# Altium schematic symbol library Analog.SchLib: 26 symbols
Pins are listed as number, name and electrical type; pins without a type are passive.

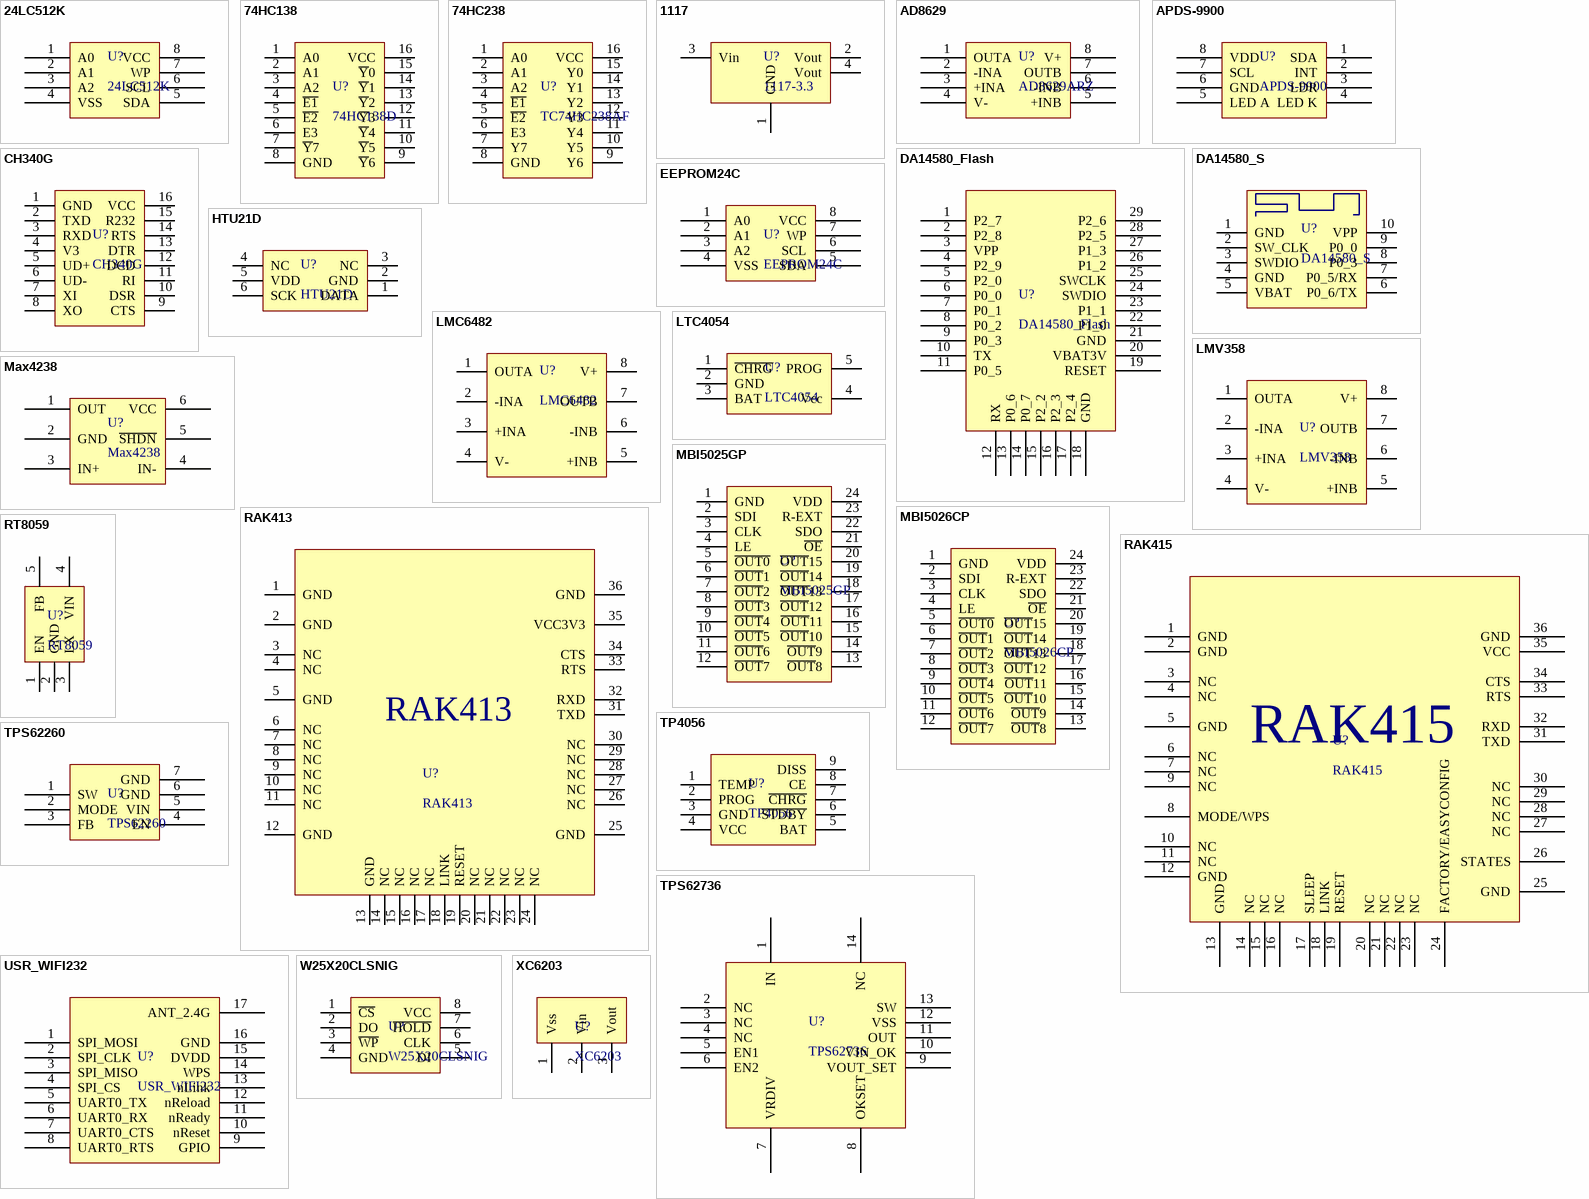
[diagram p0: symbols 24LC512K to XC6203]

## 24LC512K
designator U?
Attributes: 512K Bit; Purchase: C43586
footprint SOIC8_53MM
pins: 1 A0, 2 A1, 3 A2, 4 VSS, 5 SDA, 6 SCL, 7 WP, 8 VCC

## 74HC138
designator U?, comment 74HC138D
Attributes: 3 8译码器; Purchase: C5602
footprint SOIC16_39mm
pins: 1 A0, 2 A1, 3 A2, 4 ~{E1}, 5 ~{E2}, 6 E3, 7 ~{Y}7, 8 GND, 9 ~{Y}6, 10 ~{Y}5, 11 ~{Y}4, 12 ~{Y}3, 13 ~{Y}2, 14 ~{Y}1, 15 ~{Y}0, 16 VCC

## 74HC238
designator U?, comment TC74HC238AF
Attributes: I/O 20Ma; Purchase: C8147
pins: 1 A0, 2 A1, 3 A2, 4 ~{E1}, 5 ~{E2}, 6 E3, 7 Y7, 8 GND, 9 Y6, 10 Y5, 11 Y4, 12 Y3, 13 Y2, 14 Y1, 15 Y0, 16 VCC

## 1117
designator U?, comment 1117-3.3
Attributes: LDO 800ma; Purchase: C6186; Prices: 0.38
footprint SOT223
pins: 1 GND, 2 Vout, 3 Vin, 4 Vout

## AD8629
designator U?, comment AD8629ARZ
Amplifier; Purchase: C23487; Attributes: *
footprint SOIC8_39MM
pins: 1 OUTA, 2 -INA, 3 +INA, 4 V-, 5 +INB, 6 -INB, 7 OUTB, 8 V+

## APDS-9900
designator U?
Attributes: *; Purchase: http://item.taobao.com/item.htm?spm=a1z0d.6639537.1997196601.4.bptW0I&id=25709844036
footprint DualFlatNo-Lead
pins: 1 SDA, 2 INT, 3 LDR, 4 LED K, 5 LED A, 6 GND, 7 SCL, 8 VDD

## CH340G
designator U?
Purchase: C14267; Attributes: *; Prices: 1.46
footprint SOP-16
pins: 1 GND, 2 TXD, 3 RXD, 4 V3, 5 UD+, 6 UD-, 7 XI, 8 XO, 9 CTS, 10 DSR, 11 RI, 12 DCD, 13 DTR, 14 RTS, 15 R232, 16 VCC

## DA14580_Flash
designator U?
Attributes: *; Purchase: *
footprint DA14580_Flash
pins: 1 P2_7, 2 P2_8, 3 VPP, 4 P2_9, 5 P2_0, 6 P0_0, 7 P0_1, 8 P0_2, 9 P0_3, 10 TX, 11 P0_5, 12 RX, 13 P0_6, 14 P0_7, 15 P2_2, 16 P2_3, 17 P2_4, 18 GND, 19 RESET, 20 VBAT3V, 21 GND, 22 P1_0, 23 P1_1, 24 SWDIO, 25 SWCLK, 26 P1_2, 27 P1_3, 28 P2_5, 29 P2_6

## DA14580_S
designator U?
Attributes: *; Purchase: http://item.taobao.com/item.htm?spm=a1z09.2.9.21.JA6NGF&id=42197045529&_u=9mljuuh1fc0
footprint DA14580_S
pins: 1 GND, 2 SW_CLK, 3 SWDIO, 4 GND, 5 VBAT, 6 P0_6/TX, 7 P0_5/RX, 8 P0_3, 9 P0_0, 10 VPP

## EEPROM24C
designator U?
Attributes: 64K; Purchase: C5460
footprint SOIC8_39MM
pins: 1 A0, 2 A1, 3 A2, 4 VSS, 5 SDA, 6 SCL, 7 WP, 8 VCC

## HTU21D
designator U?
Purchase: 联合腾达电子; Attributes: *
footprint HTU21D
pins: 1 DATA, 2 GND, 3 NC, 4 NC, 5 VDD, 6 SCK

## LMC6482
designator U?
Purchase: C12620; Attributes: *
footprint LMC6482
pins: 1 OUTA, 2 -INA, 3 +INA, 4 V-, 5 +INB, 6 -INB, 7 OUTB, 8 V+

## LMV358
designator U?
Purchase: C7980; Attributes: *; Prices: 0.50
footprint LMV358_SOP (TSOP, 8-Leads, Body 3.00x3.00mm, Pitch 0.65mm, IPC Medium Density)
pins: 1 OUTA, 2 -INA, 3 +INA, 4 V-, 5 +INB, 6 -INB, 7 OUTB, 8 V+

## LTC4054
designator U?
Attributes: *; Purchase: http://detail.tmall.com/item.htm?spm=a230r.1.14.1.Wl2oSg&id=41254667951&ad_id=&am_id=&cm_id=140105335569ed55e27b&pm_id=&abbucket=10; Price: 0.855
footprint LTC4054
pins: 1 ~{CHRG}, 2 GND, 3 BAT, 4 Vcc, 5 PROG

## Max4238
designator U?
Attributes: *; Purchase: http://item.taobao.com/item.htm?spm=a230r.1.14.19.M03qaz&id=40515208161&ns=1#detail
footprint SOT95P280X145-6N (SOT23, 6-Leads, Body 2.90x2.80mm, Pitch 0.95mm, IPC Medium Density)
pins: 1 OUT, 2 GND, 3 IN+, 4 IN-, 5 ~{SHDN}, 6 VCC

## MBI5025GP
designator U?
Attributes: *; Purchase: http://item.taobao.com/item.htm?spm=a230r.1.14.1.NYibCT&id=39695648726&ns=1#detail
footprint TSOP65P640X120-24L (TSOP, 24-Leads, Body 7.80x4.40mm, Pitch 0.65mm, IPC High Density)
pins: 1 GND, 2 SDI, 3 CLK, 4 LE, 5 ~{OUT0}, 6 ~{OUT}1, 7 ~{OUT}2, 8 ~{OUT}3, 9 ~{OUT}4, 10 ~{OUT}5, 11 ~{OUT}6, 12 ~{OUT}7, 13 ~{OUT}8, 14 ~{OUT}9, 15 ~{OUT}10, 16 ~{OUT}11, 17 ~{OUT}12, 18 ~{OUT}13, 19 ~{OUT}14, 20 ~{OUT}15, 21 ~{OE}, 22 SDO, 23 R-EXT, 24 VDD

## MBI5026CP
designator U?
Attributes: *; Purchase: http://item.taobao.com/item.htm?spm=a230r.1.14.13.WzA3MR&id=39540729628&ns=1&abbucket=11&_u=imljuuh09b8#detail
footprint TSOP65P640X120-24L (TSOP, 24-Leads, Body 7.80x4.40mm, Pitch 0.65mm, IPC High Density)
pins: 1 GND, 2 SDI, 3 CLK, 4 LE, 5 ~{OUT0}, 6 ~{OUT}1, 7 ~{OUT}2, 8 ~{OUT}3, 9 ~{OUT}4, 10 ~{OUT}5, 11 ~{OUT}6, 12 ~{OUT}7, 13 ~{OUT}8, 14 ~{OUT}9, 15 ~{OUT}10, 16 ~{OUT}11, 17 ~{OUT}12, 18 ~{OUT}13, 19 ~{OUT}14, 20 ~{OUT}15, 21 ~{OE}, 22 SDO, 23 R-EXT, 24 VDD

## RAK413
designator U?
Purchase: *; Attributes: *
footprint RAK413
pins: 1 GND, 2 GND, 3 NC, 4 NC, 5 GND, 6 NC, 7 NC, 8 NC, 9 NC, 10 NC, 11 NC, 12 GND, 13 GND, 14 NC, 15 NC, 16 NC, 17 NC, 18 LINK, 19 RESET, 20 NC, 21 NC, 22 NC, 23 NC, 24 NC, 25 GND, 26 NC, 27 NC, 28 NC, 29 NC, 30 NC, 31 TXD, 32 RXD, 33 RTS, 34 CTS, 35 VCC3V3, 36 GND

## RAK415
designator U?
Attributes: *; Purchase: http://item.taobao.com/item.htm?spm=2013.1.3.7.KjR44i&scm=1007.10152.1514.0&id=41672733029&pvid=004c4be4-d852-41c5-95d3-87362d0de94b
footprint RAK415
pins: 1 GND, 2 GND, 3 NC, 4 NC, 5 GND, 6 NC, 7 NC, 8 MODE/WPS, 9 NC, 10 NC, 11 NC, 12 GND, 13 GND, 14 NC, 15 NC, 16 NC, 17 SLEEP, 18 LINK, 19 RESET, 20 NC, 21 NC, 22 NC, 23 NC, 24 FACTORY/EASYCONFIG, 25 GND, 26 STATES, 27 NC, 28 NC, 29 NC, 30 NC, 31 TXD, 32 RXD, 33 RTS, 34 CTS, 35 VCC, 36 GND

## RT8059
designator U?
Attributes: 1.5Mhz 1A; Purchase: C20542
footprint SOT23127P600-8N
pins: 1 EN, 2 GND, 3 LX, 4 VIN, 5 FB

## TP4056
designator U?
Purchase: C16581
footprint SOIC8
pins: 1 TEMP, 2 PROG, 3 GND, 4 VCC, 5 BAT, 6 ~{STDBY}, 7 ~{CHRG}, 8 CE, 9 DISS

## TPS62260
designator U?
Attributes: 600mA 2.25Mhz; Purchase: C42214; Price: 1.16
footprint QFN2x2-6
pins: 1 SW, 2 MODE, 3 FB, 4 EN, 5 VIN, 6 GND, 7 GND

## TPS62736
designator U?
Attributes: *; Purchase: http://item.taobao.com/item.htm?spm=a230r.1.14.173.77Vbin&id=44944720154&ns=1&abbucket=3#detail; Price: 2.5
footprint TPS62736
pins: 1 IN, 2 NC, 3 NC, 4 NC, 5 EN1, 6 EN2, 7 VRDIV, 8 OKSET, 9 VOUT_SET, 10 VIN_OK, 11 OUT, 12 VSS, 13 SW, 14 NC

## USR_WIFI232
designator U?
Purchase: 钟先生 13928419477; Attributes: *
footprint USR-WIFI232-S
pins: 1 SPI_MOSI, 2 SPI_CLK, 3 SPI_MISO, 4 SPI_CS, 5 UART0_TX, 6 UART0_RX, 7 UART0_CTS, 8 UART0_RTS, 9 GPIO, 10 nReset, 11 nReady, 12 nReload, 13 nLink, 14 WPS, 15 DVDD, 16 GND, 17 ANT_2.4G

## W25X20CLSNIG
designator U?
Attributes: NOR Flash SPI FLASH; Purchase: C34591
footprint SOIC8
pins: 1 ~{CS}, 2 DO, 3 ~{WP}, 4 GND, 5 DI, 6 CLK, 7 ~{HOLD}, 8 VCC

## XC6203
designator U?
Attributes: *
footprint SOT89 XC6203
pins: 1 Vss, 2 Vin, 3 Vout